# Altium schematic symbol library S8421-45R.SchLib: 1 symbol
Pins are listed as number, name and electrical type; pins without a type are passive.

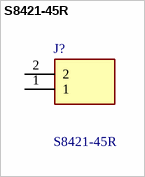
[diagram p0: symbol S8421-45R]

## S8421-45R
designator J?
Coin Cell Battery Holders EZ BDWR, SMT COIN CELL HOLDER CR2032; Manufacturer_Name: Harwin; Mouser Part Number: 855-S8421-45R; Mouser Price/Stock: https://www.mouser.co.uk/ProductDetail/Harwin/S8421-45R?qs=Qom7kyPojXY6z0Gmx3V3RQ%3D%3D; Manufacturer_Part_Number: S8421-45R; Datasheet Link: https://datasheet.datasheetarchive.com/originals/distributors/Datasheets-DGA1/157350.pdf
footprint S8421-45R_1
pins: 1, 2